# EAGLE library part 1761681-7 (library 1761681-7)
2.54mm,Header,vert,DR,20W,lo profile,Au Source: Datasheet <https://datasheet.datasheetarchive.com/originals/dk/DKDS-21/401441.pdf>
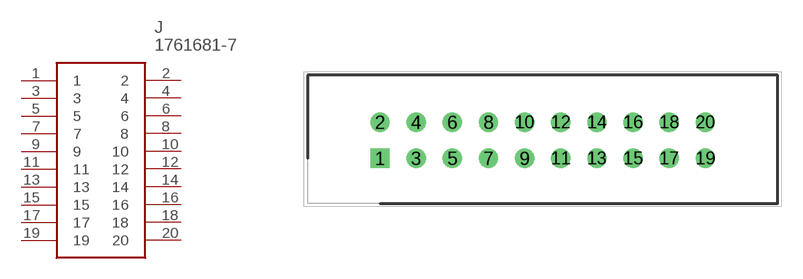
[diagram p0: symbol with the pads of SHDR20W66P254_2X10_3302X883X92; footprint SHDR20W66P254_2X10_3302X883X92]

Designator prefix J

## 1761681-7 (Arrow_Part_Number: 1761681-7; Arrow_Price-Stock: https://www.arrow.com/en/products/1761681-7/te-connectivity?region=nac; Description: 2.54mm,Header,vert,DR,20W,lo profile,Au; Height: 9.22mm; Manufacturer_Name: TE Connectivity; Manufacturer_Part_Number: 1761681-7; Mouser_Part_Number: 571-1761681-7; Mouser_Price-Stock: https://www.mouser.co.uk/ProductDetail/TE-Connectivity/1761681-7?qs=xbX7sCn4AeOgS8GR6bHZNw%3D%3D)  [SHDR20W66P254_2X10_3302X883X92]
1  1
2  2
3  3
4  4
5  5
6  6
7  7
8  8
9  9
10  10
11  11
12  12
13  13
14  14
15  15
16  16
17  17
18  18
19  19
20  20

## Footprint SHDR20W66P254_2X10_3302X883X92 (pad centres in mm)
1761681-7
drill 0.85 pad 1.275 square: 1 0,0
drill 0.85 pad 1.275: 2 0,2.54; 3 2.54,0; 4 2.54,2.54; 5 5.08,0; 6 5.08,2.54; 7 7.62,0; 8 7.62,2.54; 9 10.16,0; 10 10.16,2.54; 11 12.7,0; 12 12.7,2.54; 13 15.24,0; 14 15.24,2.54; 15 17.78,0; 16 17.78,2.54; 17 20.32,0; 18 20.32,2.54; 19 22.86,0; 20 22.86,2.54